# Altium schematic symbol library mysch.SchLib: 46 symbols
Pins are listed as number, name and electrical type; pins without a type are passive.

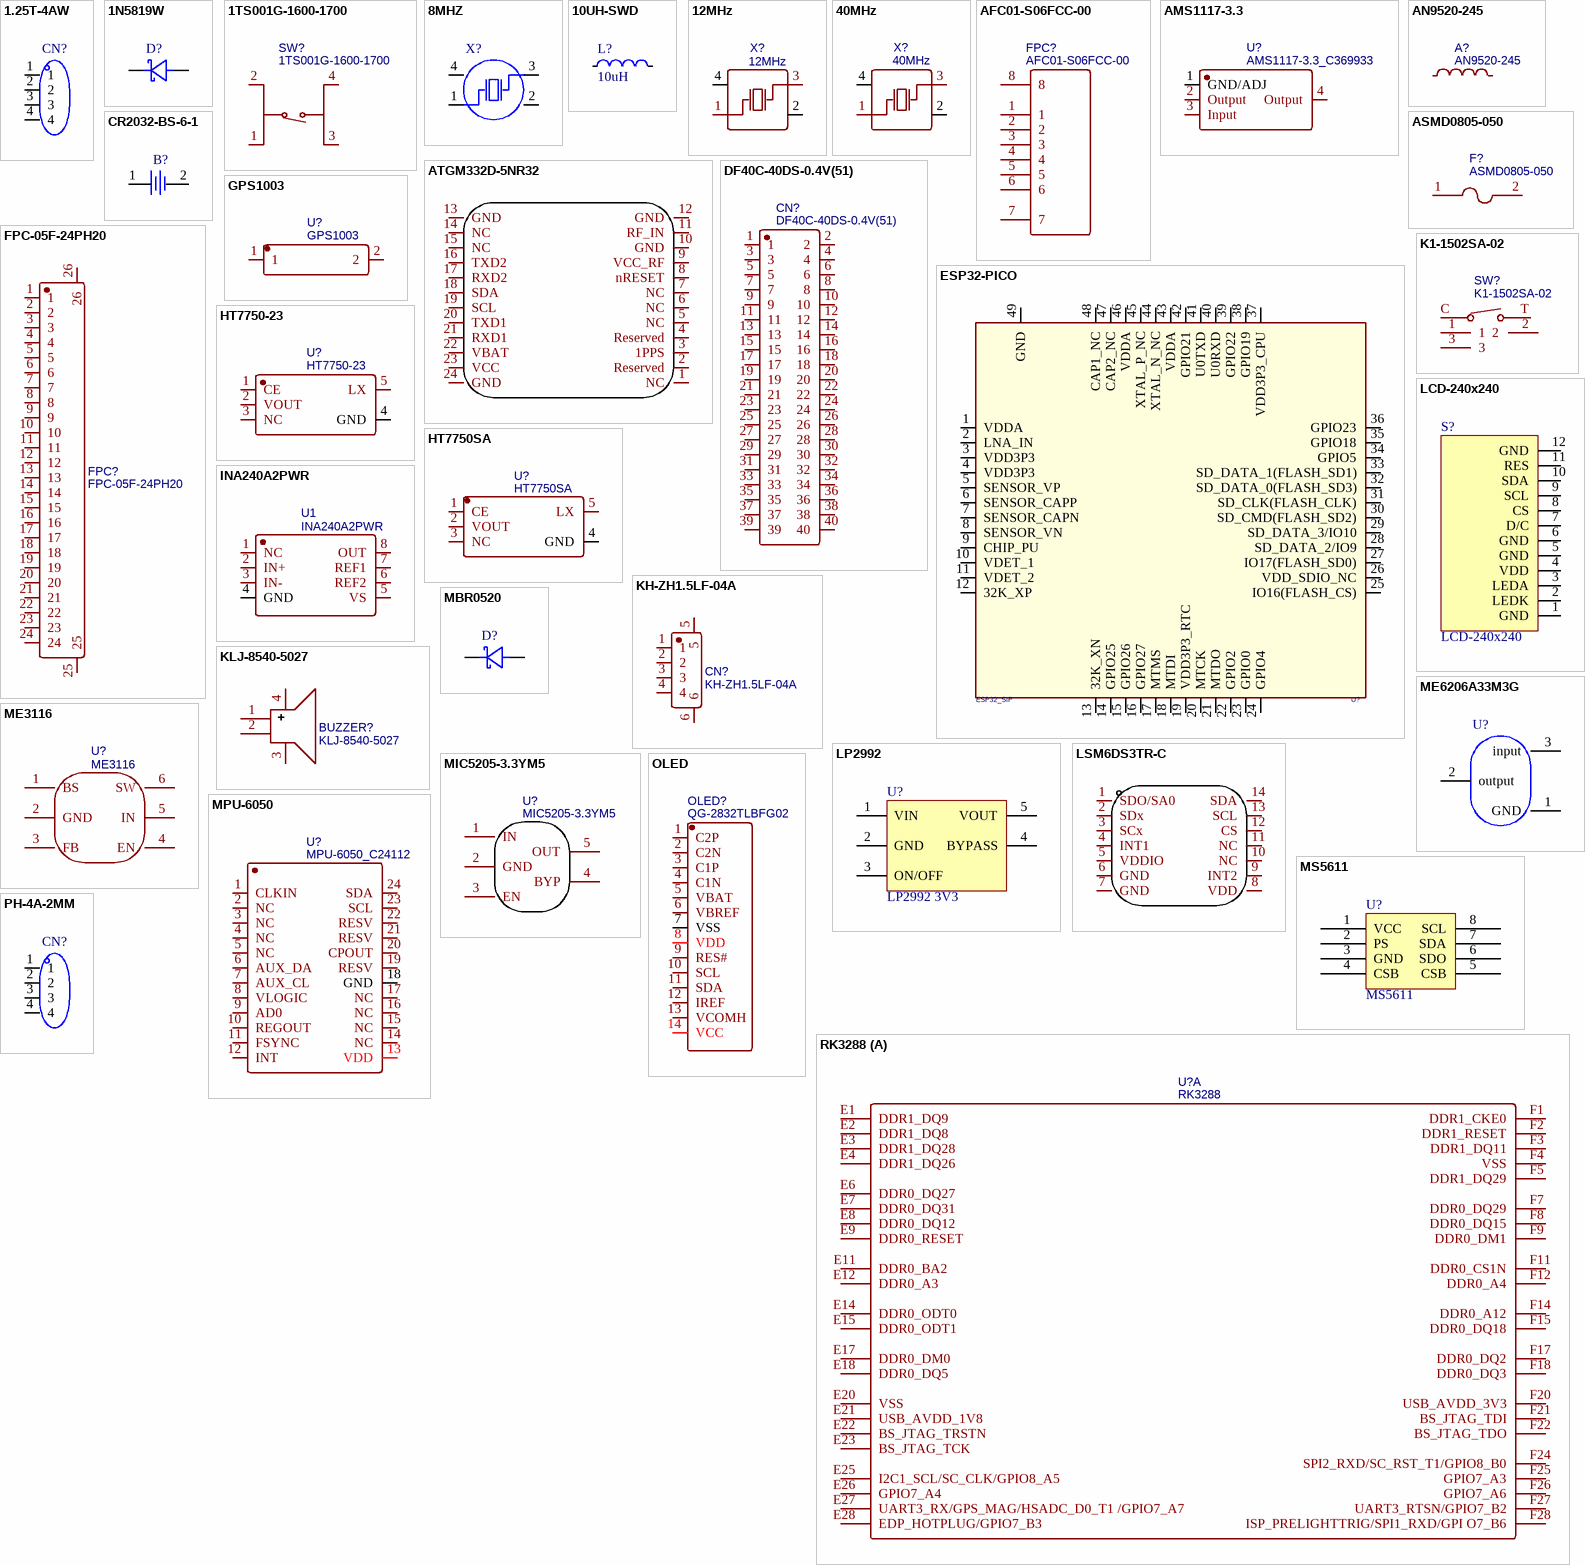
[diagram p0: symbols 1.25T-4AW to RK3288]

## 1.25T-4AW
designator CN?
1.25mm 4P; Manufacturer: CAX(创都); Symbol: 1.25T-4AW_C722639; Device: 1.25T-4AW; Add into BOM: yes; Pins Structure: 1x4P; Number of PINs Per Row: 4; Gender: 公型插针; Current Rating (Max): 1A; LCSC Part Name: 4P 1.25mm; Supplier Part: C722639; Manufacturer Part: 1.25T-4AW; Supplier Footprint: 插件,P=1.25mm; JLCPCB Part Class: Extended Part; Datasheet: https://atta.szlcsc.com/upload/public/pdf/source/20200831/C722634_24F26787281092EEA77CD6D878338187.pdf; Supplier: LCSC; Convert to PCB: yes; Reference Series: -; Pitch: 1.25mm; Number of Rows: 1; Row Spacing: -; Mounting Style: 弯插; Operating Temperature Range: -25~+85
footprint CONN-TH_1.25T-4AW
pins: 1, 2, 3, 4

## 1N5819W
designator D?
二极管; Manufacturer: TWGMC(台湾迪嘉); Manufacturer Part: 1N5819W; Symbol: 1N5819W_C727115; Add into BOM: yes; Diode Configuration: 独立式; Reverse Voltage (Vr): 40V; Average Rectified Current (Io): 1A; Forward Voltage (Vf@If): 900mV@3A; Reverse Leakage Current (Ir): 1mA@40V; Device: 1N5819W_C727115; LCSC Part Name: 40V 1A 900mV@3A; Supplier Part: C727115; Supplier Footprint: SOD-123; JLCPCB Part Class: Extended Part; Datasheet: https://atta.szlcsc.com/upload/public/pdf/source/20200828/C727113_260B72EC53C389C21DF1E8AB243F1BFC.pdf; Supplier: LCSC; Convert to PCB: yes
footprint SOD-123 (二极管)
pins: 1 C, 2 A

## 1TS001G-1600-1700
designator SW?
四脚触控开关; BOM_Manufacturer: HYP; Contributor: LCSC; BOM_Supplier: LCSC; BOM_Supplier Part: C318802; BOM_Manufacturer Part: 1TS001G-1600-1700; BOM_JLCPCB Part Class: Extended Part; spicePre: S; spiceSymbolName: 1TS001G-1600-1700
footprint SW-SMD_4P-L5.1-W5.1-P3.70-LS6.5-TL-2
pins: 1 A, 2 B, 3 C, 4 D

## 8MHZ
designator X?
8M 30PPM 20pf; Manufacturer: SIWARD(台湾希华); Symbol: XTL541200-C282-030; Add into BOM: yes; Device: XTL541200-C282-030; LCSC Part Name: 8MHz 20pF 20PPM; Supplier Part: C211359; Manufacturer Part: XTL541200-C282-030; Supplier Footprint: SMD5032-4P; JLCPCB Part Class: Extended Part; Datasheet: https://atta.szlcsc.com/upload/public/pdf/source/20180502/C211359_C3A699E12D7D0972204A7F7616890513.pdf; Supplier: LCSC; Convert to PCB: yes; Crystal Type: -; Frequency Tolerance: -; Frequency Stability: -; Load Capacitance: -; Operating Temperature: -
footprint OSC-SMD_4P-L5.0-W3.2-BL
pins: 1 OSC1, 2 GND, 3 OSC2, 4 GND

## 10UH-SWD
designator L?  value 10uH
Manufacturer: Sunlord(顺络); Symbol: SWPA3012S100MT; Add into BOM: yes; Tolerance: ±20%; Rated Current: 830mA; DC Resistance (DCR): 345mΩ; Device: SWPA3012S100MT; LCSC Part Name: 10uH ±20% 830mA 345mΩ; Supplier Part: C48668; Manufacturer Part: SWPA3012S100MT; Supplier Footprint: SMD; JLCPCB Part Class: Extended Part; Datasheet: https://atta.szlcsc.com/upload/public/pdf/source/20210916/AC798BA7E846B7D0B6818F45CD84DB0B.pdf; Supplier: LCSC; Convert to PCB: yes
footprint IND-SMD_L3.0-W3.0_SWPA3010S
pins: 1, 2

## 12MHz
designator X?
无源晶振; BOM_Manufacturer: YXC; BOM_Manufacturer Part: X322512MSB4SI; nameAlias: Frequency; BOM_Supplier: LCSC; BOM_Supplier Part: C9002; BOM_JLCPCB Part Class: Basic Part; spicePre: X; spiceSymbolName: X322512MSB4SI
footprint OSC-SMD_4P-L3.2-W2.5-BL
pins: 1 OSC1, 2 GND, 3 OSC2, 4 GND

## 40MHz
designator X?
有源晶振; BOM_Manufacturer: TKD; BOM_Manufacturer Part: 3225-20MHZ-15PF-10PPM; nameAlias: Frequency; Contributor: LCSC; BOM_Supplier: LCSC; BOM_Supplier Part: C337680; spicePre: X; spiceSymbolName: 3225-20MHZ-15PF-10PPM
footprint OSC-SMD_4P-L3.2-W2.5-BL
pins: 1 OSC1, 2 GND, 3 OSC2, 4 GND

## AFC01-S06FCC-00
designator FPC?
BOM_Manufacturer: JUSHUO; Contributor: LCSC; BOM_Supplier: LCSC; BOM_Supplier Part: C262262; BOM_Manufacturer Part: AFC01-S06FCC-00; BOM_JLCPCB Part Class: Extended Part; spicePre: F; spiceSymbolName: AFC01-S06FCC-00
footprint FPC-SMD_AFC01-S06FCC-00
pins: 1, 2, 3, 4, 5, 6, 7, 8

## AMS1117-3.3
designator U?, comment AMS1117-3.3_C369933
LDO 5V-3.3V; BOM_Manufacturer: KEXIN; Contributor: LCSC; BOM_Paste Type: expand; BOM_Supplier: LCSC; BOM_Supplier Part: C369933; BOM_Manufacturer Part: AMS1117-3.3; spicePre: U; spiceSymbolName: AMS1117-3.3_C369933
footprint SOT-223-AMS1117
pins: 1 GND/ADJ, 2 Output, 3 Input, 4 Output

## AN9520-245
designator A?
陶瓷wifi/bt天线; BOM_Manufacturer: Rainsun; BOM_Supplier: LCSC; BOM_Manufacturer Part: AN9520-245; BOM_Supplier Part: C99665; BOM_JLCPCB Part Class: Extended Part; spicePre: L; spiceSymbolName: AN9520-245
footprint ANT-SMD_L9.5-W2.1
pins: 1, 2

## ASMD0805-050
designator F?
电流保护; BOM_Manufacturer: JDTFUSE; Contributor: LCSC; BOM_Supplier: LCSC; BOM_Manufacturer Part: ASMD0805-050; BOM_Supplier Part: C135329; BOM_JLCPCB Part Class: Extended Part; spicePre: F; spiceSymbolName: ASMD0805-050
footprint ASMD0805
pins: 1, 2

## ATGM332D-5NR32
designator U?  (value not drawn)
Manufacturer: 杭州中科微; Add into BOM: yes; Name: ATGM332D-5NR32; Symbol: ATGM332D-5NR32; Device: ATGM332D-5NR32; LCSC Part Name: BDS/GNSS 全星座定位导航模块; Supplier Part: C3037611; Manufacturer Part: ATGM332D-5NR32; Supplier Footprint: -; JLCPCB Part Class: Extended Part; Datasheet: https://atta.szlcsc.com/upload/public/pdf/source/20220623/89B350A4689FD8DAA801C638D9ED4BB8.pdf; Supplier: LCSC; Convert to PCB: yes
footprint GSM-SMD_ATGM332D-5N11
3D model GSM-SMD_24P-L16.0-W12.2-H2.4_ATGM332D-5N11
pins: 1 NC, 2 Reserved, 3 1PPS, 4 Reserved, 5 NC, 6 NC, 7 NC, 8 nRESET, 9 VCC_RF, 10 GND, 11 RF_IN, 12 GND, 13 GND, 14 NC, 15 NC, 16 TXD2, 17 RXD2, 18 SDA, 19 SCL, 20 TXD1, 21 RXD1, 22 VBAT, 23 VCC, 24 GND

## CR2032-BS-6-1
designator B?
电池座; Manufacturer: Q&J; Symbol: CR2032-BS-6-1; Add into BOM: yes; Connector Type: 电池底座; Battery Type: CR2032; Device: CR2032-BS-6-1; LCSC Part Name: 电池底座 适用电池:CR2032; Supplier Part: C70377; Manufacturer Part: CR2032-BS-6-1; Supplier Footprint: SMD; JLCPCB Part Class: Extended Part; Datasheet: https://atta.szlcsc.com/upload/public/pdf/source/20160427/1461725216549.pdf; Supplier: LCSC; Convert to PCB: yes; Operating Temperature Range: -
footprint BAT-TH_CR2032-BS-6-1
pins: 1, 2

## DF40C-40DS-0.4V(51)
designator CN?
BTB; BOM_Manufacturer: HRS(广濑); Contributor: LCSC; BOM_Supplier: LCSC; BOM_Supplier Part: C424644; BOM_Manufacturer Part: DF40C-40DS-0.4V(51); BOM_JLCPCB Part Class: Extended Part; spicePre: C; spiceSymbolName: DF40C-40DS-0.4V(51)
footprint CONN-SMD_DF40C-40DS-0.4V51
pins: 1, 2, 3, 4, 5, 6, 7, 8, 9, 10, 11, 12, 13, 14, 15, 16, 17, 18, 19, 20, 21, 22, 23, 24, 25, 26, 27, 28, 29, 30, 31, 32, 33, 34, 35, 36, 37, 38, 39, 40

## ESP32-PICO
designator U?, comment ESP32_SIP
footprint QFN-48_7X7
pins: 1 VDDA (power), 2 LNA_IN, 3 VDD3P3 (power), 4 VDD3P3 (power), 5 SENSOR_VP, 6 SENSOR_CAPP, 7 SENSOR_CAPN, 8 SENSOR_VN, 9 CHIP_PU, 10 VDET_1, 11 VDET_2, 12 32K_XP, 13 32K_XN, 14 GPIO25, 15 GPIO26, 16 GPIO27, 17 MTMS, 18 MTDI, 19 VDD3P3_RTC (power), 20 MTCK, 21 MTDO, 22 GPIO2, 23 GPIO0, 24 GPIO4, 25 IO16(FLASH_CS), 26 VDD_SDIO_NC, 27 IO17(FLASH_SD0), 28 SD_DATA_2/IO9, 29 SD_DATA_3/IO10, 30 SD_CMD(FLASH_SD2), 31 SD_CLK(FLASH_CLK), 32 SD_DATA_0(FLASH_SD3), 33 SD_DATA_1(FLASH_SD1), 34 GPIO5, 35 GPIO18, 36 GPIO23, 37 VDD3P3_CPU (power), 38 GPIO19, 39 GPIO22, 40 U0RXD (power), 41 U0TXD (power), 42 GPIO21, 43 VDDA (power), 44 XTAL_N_NC, 45 XTAL_P_NC, 46 VDDA (power), 47 CAP2_NC, 48 CAP1_NC, 49 GND (power)

## FPC-05F-24PH20
designator FPC?
FPC24脚; BOM_Manufacturer: XUNPU(讯普); Contributor: LCSC; BOM_Supplier: LCSC; BOM_Supplier Part: C2856805; BOM_Manufacturer Part: FPC-05F-24PH20; spicePre: F; spiceSymbolName: FPC-05F-24PH20
footprint FPC-SMD_24P-P0.50_FPC-05F-24PH20
pins: 1, 2, 3, 4, 5, 6, 7, 8, 9, 10, 11, 12, 13, 14, 15, 16, 17, 18, 19, 20, 21, 22, 23, 24, 25, 26

## GPS1003
designator U?
GPS陶瓷天线; BOM_Manufacturer: Rainsun microwave Tech; Contributor: LCSC; BOM_Supplier: LCSC; BOM_Supplier Part: C239243; BOM_Manufacturer Part: GPS1003; BOM_JLCPCB Part Class: Extended Part; spicePre: U; spiceSymbolName: GPS1003
footprint ANT-SMD_L10.0-W3.0
pins: 1, 2

## HT7750-23
designator U?
BOM_Manufacturer: Holtek Semicon; BOM_Manufacturer Part: HT7750; Contributor: LCSC; BOM_Supplier: LCSC; BOM_Supplier Part: C259881; BOM_JLCPCB Part Class: Extended Part; spicePre: U; spiceSymbolName: HT7750_C259881
footprint SOT-23-5_L3.0-W1.7-P0.95-LS2.8-BL
pins: 1 CE, 2 VOUT, 3 NC, 4 GND, 5 LX

## HT7750SA
designator U?
BOM_Manufacturer: Holtek Semicon; Contributor: LCSC; BOM_Supplier: LCSC; BOM_Supplier Part: C192571; BOM_Manufacturer Part: HT7750SA; BOM_JLCPCB Part Class: Extended Part; spicePre: U; spiceSymbolName: HT7750SA
footprint SOT-23-5
pins: 1 CE, 2 VOUT, 3 NC, 4 GND, 5 LX

## INA240A2PWR
designator U1
BOM_Manufacturer: TI; subpart_no: 1; Contributor: LCSC; BOM_Supplier: LCSC; BOM_Manufacturer Part: INA240A2PWR; BOM_Supplier Part: C129949; BOM_JLCPCB Part Class: Extended Part; spicePre: U; spiceSymbolName: INA240A2PWR
footprint TSSOP-8_L4.4-W3.0-P0.65-LS6.4-BL
pins: 1 NC, 2 IN+, 3 IN-, 4 GND, 5 VS, 6 REF2, 7 REF1, 8 OUT

## K1-1502SA-02
designator SW?
拨码开关; BOM_Manufacturer: Rectangular Connectors - Contacts; Contributor: LCSC; BOM_Supplier: LCSC; BOM_Supplier Part: C128929; BOM_Manufacturer Part: K1-1502SA-02; BOM_JLCPCB Part Class: Extended Part; spicePre: S; spiceSymbolName: K1-1502SA-02
footprint KEY-SMD_K1-1502SA-02
pins: 1, 2, 3, C, T

## KH-ZH1.5LF-04A
designator CN?
BOM_Manufacturer: kinghelm(金航标); Contributor: LCSC; BOM_Supplier: LCSC; BOM_Supplier Part: C2688776; BOM_Manufacturer Part: KH-ZH1.5LF-04A; spicePre: C; spiceSymbolName: KH-ZH1.5LF-04A
footprint CONN-SMD_KH-ZH1.5LF-04A
pins: 1, 2, 3, 4, 5, 6

## KLJ-8540-5027
designator BUZZER?
有源喇叭; BOM_Manufacturer: KELIKING; Contributor: LCSC; BOM_Supplier: LCSC; BOM_Supplier Part: C556939; BOM_Manufacturer Part: KLJ-8540-5027; BOM_JLCPCB Part Class: Extended Part; spicePre: B; spiceSymbolName: KLJ-8540-5027
footprint BUZ-SMD_4P-L8.5-W8.5-TL
pins: 1 +, 2 -, 3 NC, 4 NC

## LCD-240x240
designator S?
显示屏
footprint LCD-240x240
footprint LCD-240x240-FlUSH
footprint LCD-240x240-FlUSH-154
pins: 1 GND, 2 LEDK, 3 LEDA, 4 VDD, 5 GND, 6 GND, 7 D/C, 8 CS, 9 SCL, 10 SDA, 11 RES, 12 GND

## LP2992
designator U?, comment LP2992 3V3
LDO
footprint SOT23-5 (SOT23, 3-Leads, Body 3.1x3.0mm (max), Pitch 0.95mm, IPC Medium Density)
pins: 1 VIN, 2 GND, 3 ON/OFF, 4 BYPASS, 5 VOUT

## LSM6DS3TR-C
designator U?  (value not drawn)
Manufacturer: ST(意法半导体); Add into BOM: yes; Name: LSM6DS3TR-C; Symbol: LSM6DS3TR-C; Device: LSM6DS3TR-C; LCSC Part Name: IMU-惯性测量单元; Supplier Part: C967633; Manufacturer Part: LSM6DS3TR-C; Supplier Footprint: LGA-14; JLCPCB Part Class: Extended Part; Datasheet: https://atta.szlcsc.com/upload/public/pdf/source/20210226/C967633_4D8B3A108D63359423D57B97CE5134B1.pdf; Supplier: LCSC; Convert to PCB: yes
footprint LGA-14_L3.0-W2.5-P0.50-TL
3D model LGA-14_L2.5-W3.0-H0.9-P0.50
pins: 1 SDO/SA0, 2 SDx, 3 SCx, 4 INT1, 5 VDDIO, 6 GND, 7 GND, 8 VDD, 9 INT2, 10 NC, 11 NC, 12 CS, 13 SCL, 14 SDA

## MBR0520
designator D?
20V 500mA 450mV肖恩二极管; Manufacturer: YANGJIE(扬杰); Symbol: MBR0520_C699111; Device: MBR0520; Add into BOM: yes; Forward Voltage (Vf@If): 450mV@500mA; LCSC Part Name: 20V 500mA 450mV@500mA; Supplier Part: C699111; Manufacturer Part: MBR0520; Supplier Footprint: SOD-123; JLCPCB Part Class: Extended Part; Datasheet: https://atta.szlcsc.com/upload/public/pdf/source/20200709/C699108_94C8F1A54679DD603C9696C8694A3BC2.pdf; Supplier: LCSC; Convert to PCB: yes; Reverse Voltage (Vr): 20V; Average Rectified Current (Io): 500mA
footprint SOD-123_L2.7-W1.6-LS3.7-RD-1
pins: 1 K, 2 A

## ME3116
designator U?
BOM_Manufacturer: MICRONE; BOM_Supplier: LCSC; BOM_Manufacturer Part: ME3116; BOM_Supplier Part: C97643; BOM_JLCPCB Part Class: Extended Part; spicePre: U; spiceSymbolName: ME3116
footprint SOT-23-6_L2.9-W1.6-P0.95-LS2.8-BR
pins: 1 BS, 2 GND, 3 FB, 4 EN, 5 IN, 6 SW

## ME6206A33M3G
designator U?
LDO; Manufacturer: MICRONE(南京微盟); Symbol: ME6206A33M3G; Add into BOM: yes; Output Type: 固定; Output Polarity: 正; Number of Outputs: 1; Maximum Input Voltage: 6V; Output Voltage: 3.3V; Dropout Voltage: 380mV@(200mA); Output Current: 300mA; Power Supply Rejection Ratio (PRSS): 50dB@(1kHz); Device: ME6206A33M3G; LCSC Part Name: Vin=6V Vout=3.3V 300mA 50dB@(1kHz); Supplier Part: C35259; Manufacturer Part: ME6206A33M3G; Supplier Footprint: SOT-23-3L; JLCPCB Part Class: Extended Part; Datasheet: https://atta.szlcsc.com/upload/public/pdf/source/20171014/C35259_15079757490131038524.pdf; Supplier: LCSC; Convert to PCB: yes; Quiescent Current (Ground Current): -
footprint SOT-23-3_L2.9-W1.6-P1.90-LS2.8-BR
pins: 1 GND, 2 output, 3 input

## MIC5205-3.3YM5
designator U?
BOM_Manufacturer: MICROCHIP; BOM_Supplier: LCSC; BOM_Manufacturer Part: MIC5205-3.3YM5; image: //image.lceda.cn/szlcsc/C37970.jpg; BOM_Supplier Part: C37970; BOM_JLCPCB Part Class: Extended Part; spicePre: U; spiceSymbolName: MIC5205-3.3YM5
footprint SOT-23-5
pins: 1 IN, 2 GND, 3 EN, 4 BYP, 5 OUT

## MPU-6050
designator U?, comment MPU-6050_C24112
Gsenser; BOM_Manufacturer: InvenSense; sourceId: 1T5FDZYC8; timeStamp: 1462265206; BOM_Supplier: LCSC; BOM_Manufacturer Part: MPU-6050; BOM_Supplier Part: C24112; BOM_JLCPCB Part Class: Basic Part; spicePre: U; spiceSymbolName: MPU-6050_C24112
footprint QFN-24_L4.0-W4.0-P0.50-BL-MPU-6050
pins: 1 CLKIN, 2 NC, 3 NC, 4 NC, 5 NC, 6 AUX_DA, 7 AUX_CL, 8 VLOGIC, 9 AD0, 10 REGOUT, 11 FSYNC, 12 INT, 13 VDD, 14 NC, 15 NC, 16 NC, 17 NC, 18 GND, 19 RESV, 20 CPOUT, 21 RESV, 22 RESV, 23 SCL, 24 SDA

## MS5611
designator U?
footprint MS5611
pins: 1 VCC, 2 PS, 3 GND, 4 CSB, 5 CSB, 6 SDO, 7 SDA, 8 SCL

## OLED
designator OLED?, comment QG-2832TLBFG02
BOM_Manufacturer: Allvision; Contributor: LCSC; BOM_Supplier: LCSC; BOM_Manufacturer Part: QG-2832TLBFG02; BOM_Supplier Part: C91220; BOM_JLCPCB Part Class: Extended Part; spicePre: O; spiceSymbolName: QG-2832TLBFG02
footprint OLED-SMD_QG-9616TSWCG02
pins: 1 C2P, 2 C2N, 3 C1P, 4 C1N, 5 VBAT, 6 VBREF, 7 VSS, 8 VDD, 9 RES#, 10 SCL, 11 SDA, 12 IREF, 13 VCOMH, 14 VCC

## PH-4A-2MM
designator CN?
Manufacturer: CAX(创都); Symbol: PH-4A_C722775; Device: PH-4A; Add into BOM: yes; LCSC Part Name: 4P 2.0mm; Supplier Part: C722775; Manufacturer Part: PH-4A; Supplier Footprint: -; JLCPCB Part Class: Extended Part; Datasheet: https://atta.szlcsc.com/upload/public/pdf/source/20200831/C722752_2CEED1D72592B01C53DF3269E60027F0.pdf; Supplier: LCSC; Convert to PCB: yes
footprint CONN-TH_PH-4A
pins: 1, 2, 3, 4

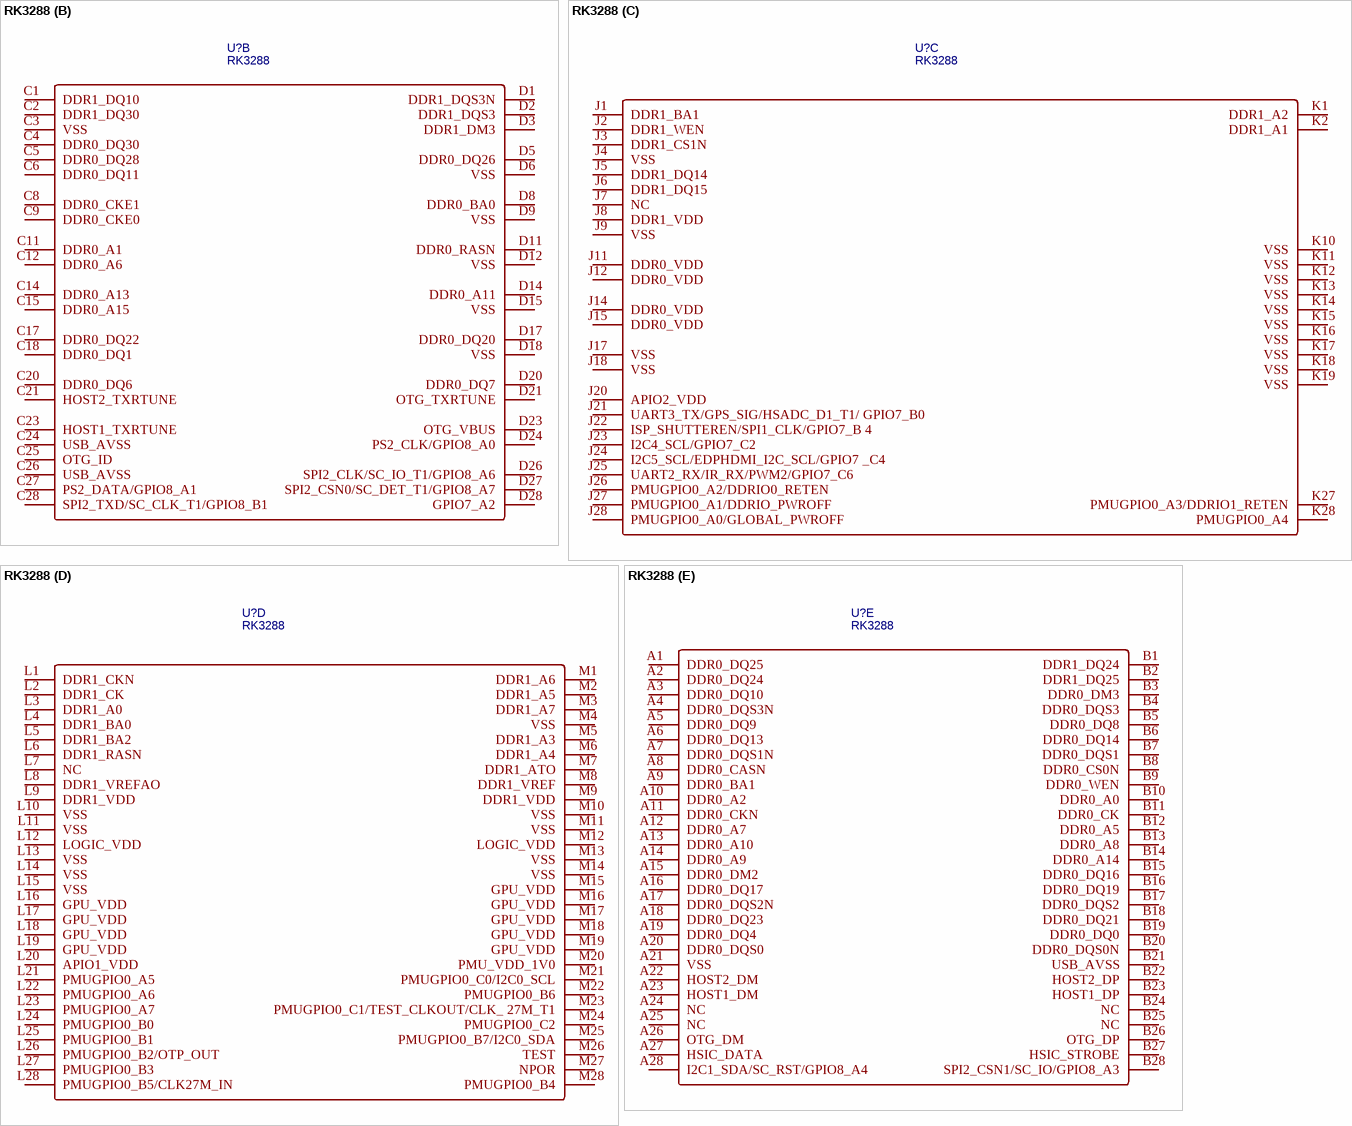
[diagram p1: symbol RK3288]

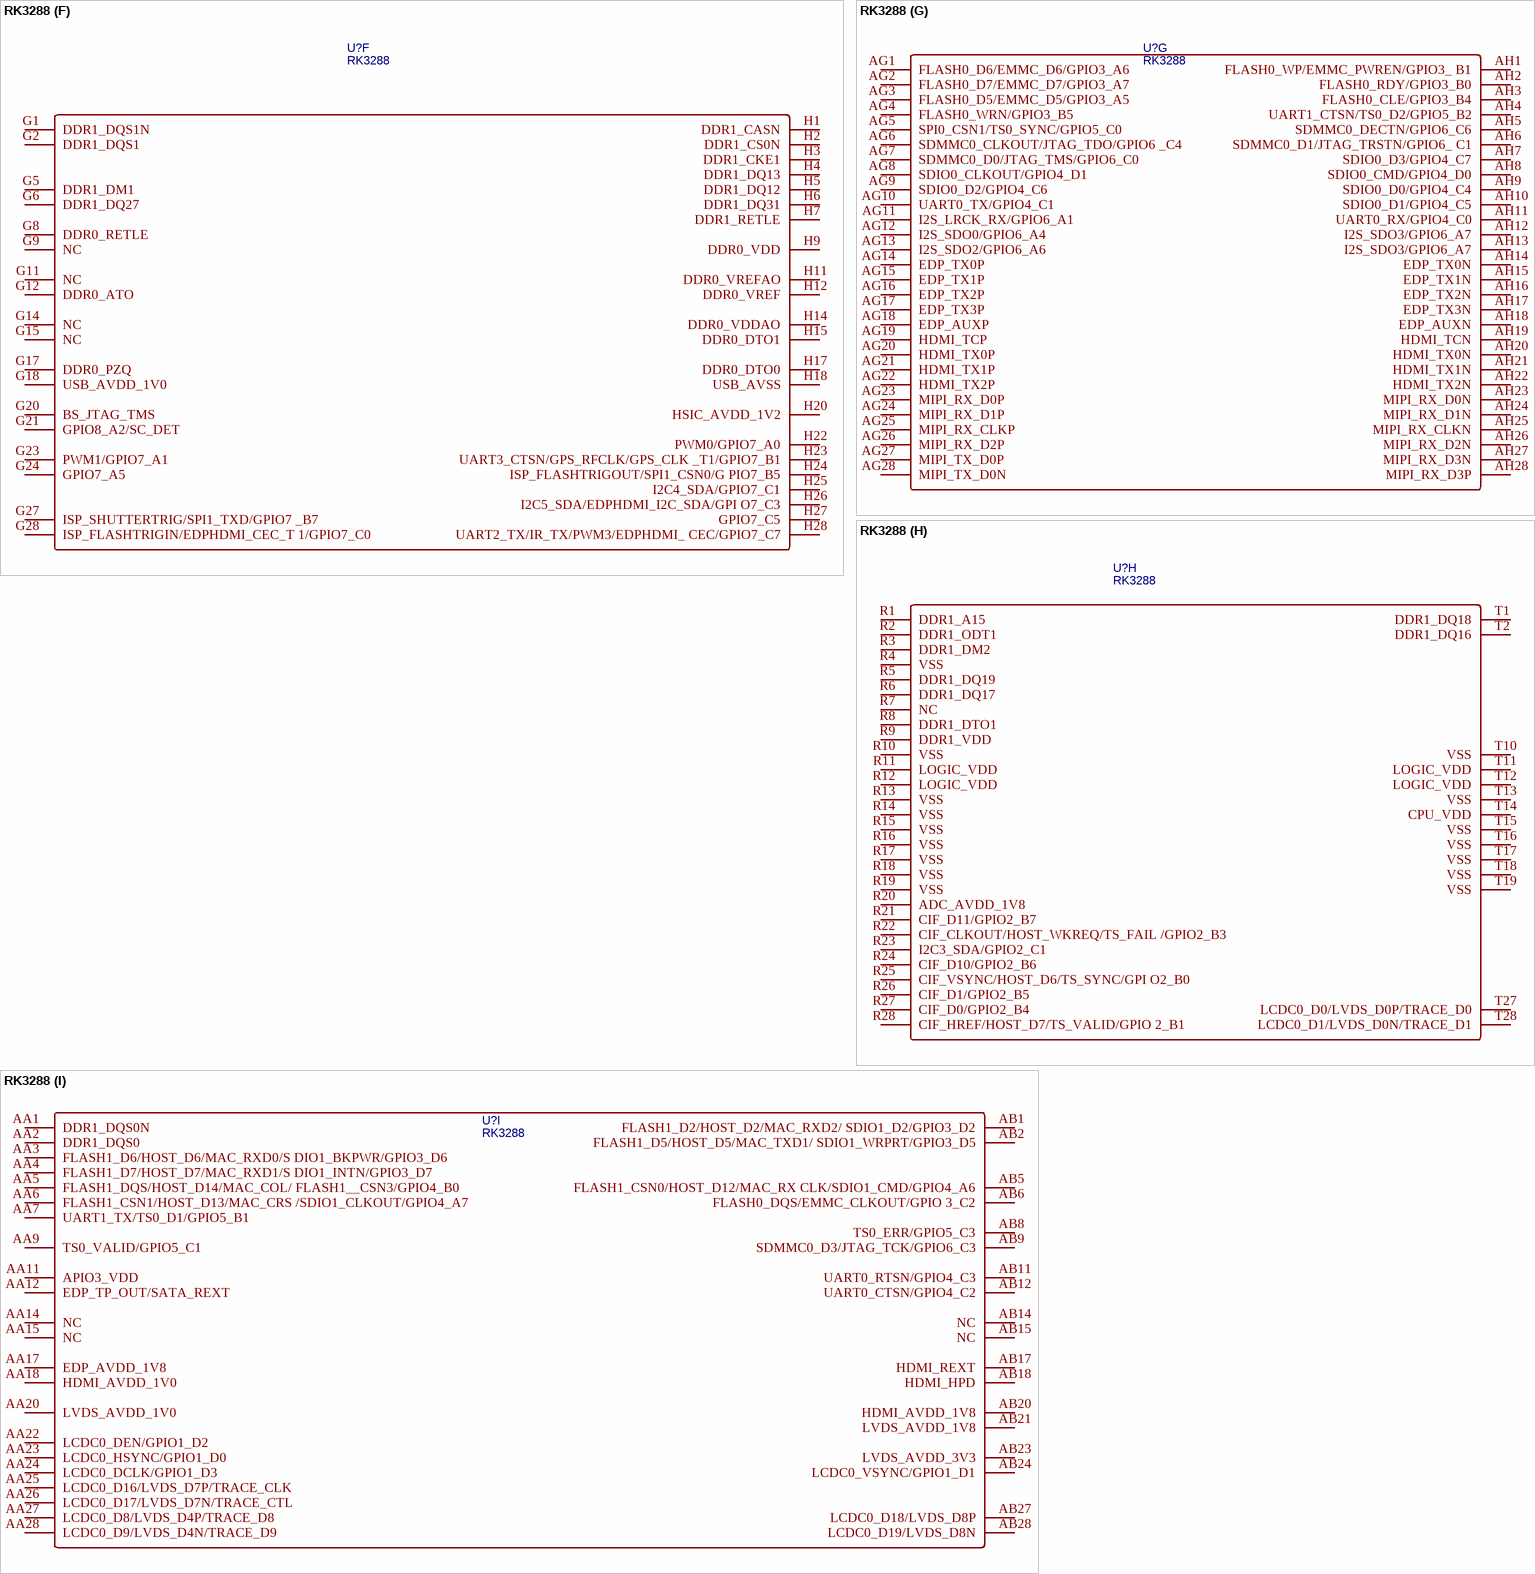
[diagram p2: symbol RK3288]

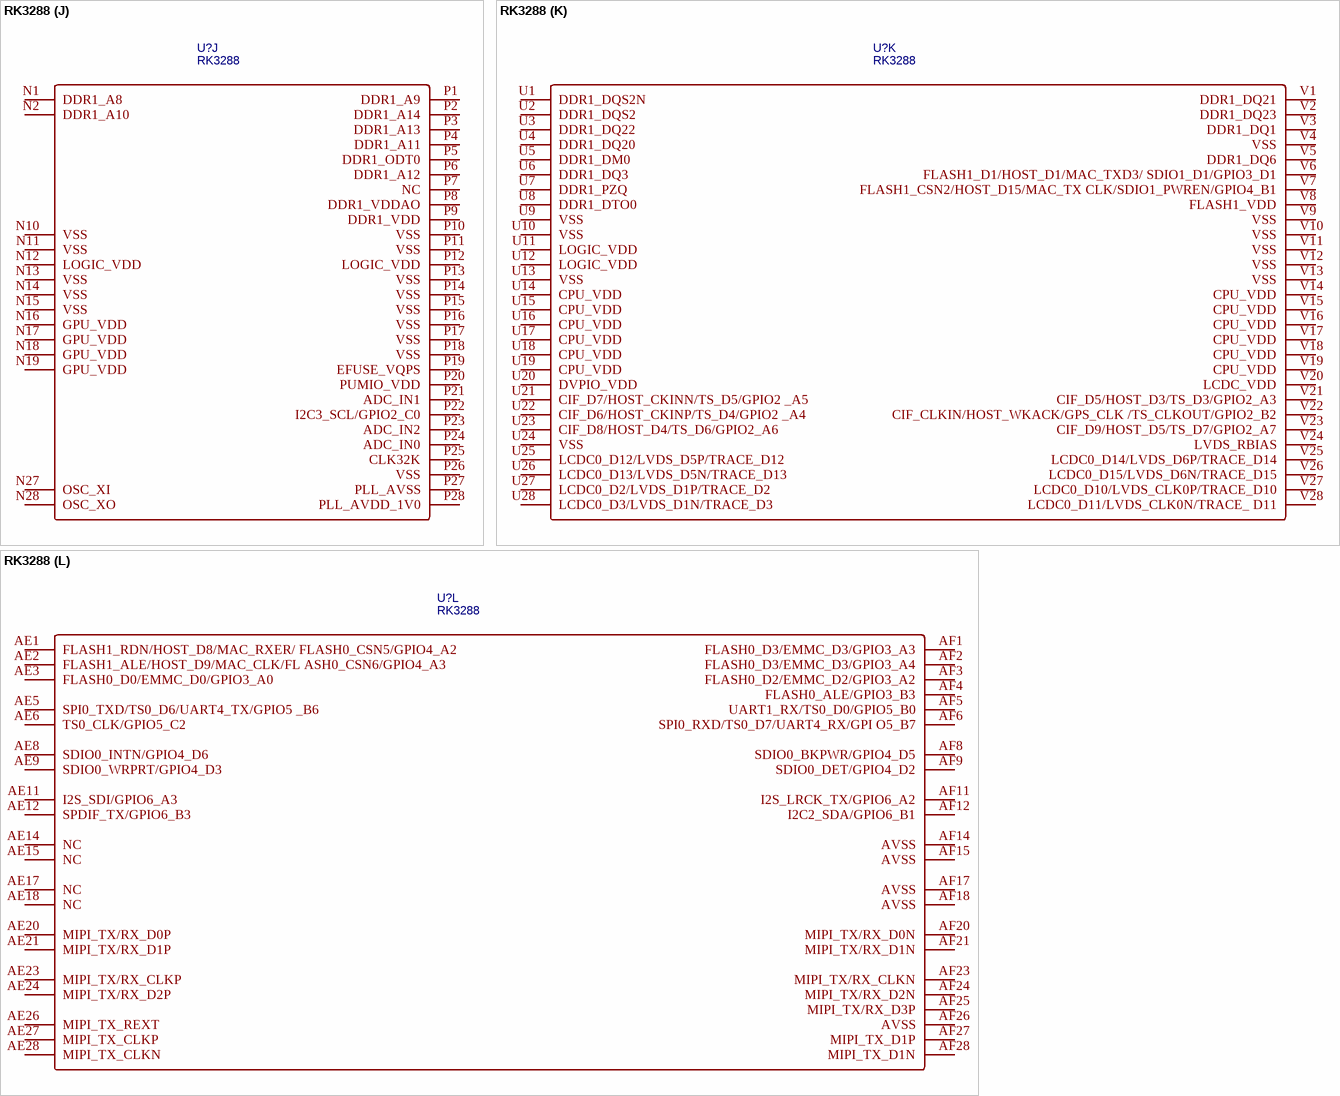
[diagram p3: symbol RK3288]

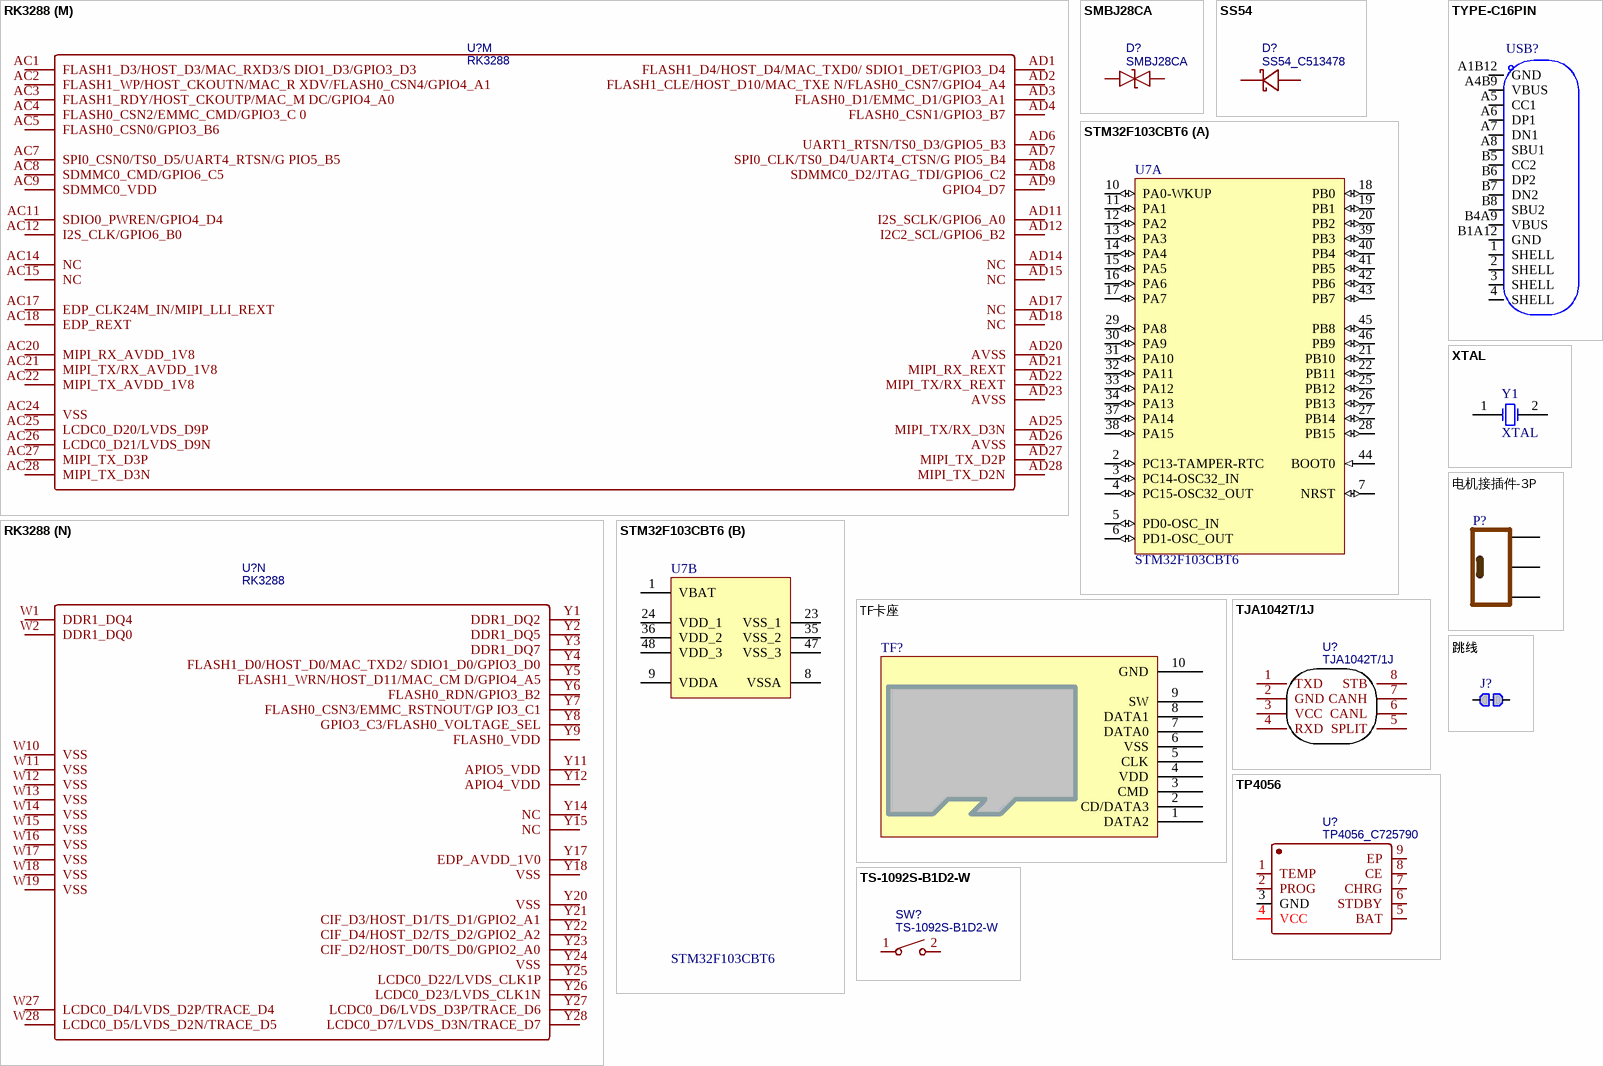
[diagram p4: symbols RK3288 to 跳线]

## RK3288
designator U?
BOM_Manufacturer: Rockchip(瑞芯微); subpart_no: 3; BOM_Supplier: LCSC; BOM_Supplier Part: C191247; BOM_Manufacturer Part: RK3288; BOM_JLCPCB Part Class: Extended Part; spicePre: U; spiceSymbolName: RK3288
footprint BGA-636_L19.0-W19.0-P0.65-TL_RK3288
part A pins: E1 DDR1_DQ9, E2 DDR1_DQ8, E3 DDR1_DQ28, E4 DDR1_DQ26, E6 DDR0_DQ27, E7 DDR0_DQ31, E8 DDR0_DQ12, E9 DDR0_RESET, E11 DDR0_BA2, E12 DDR0_A3, E14 DDR0_ODT0, E15 DDR0_ODT1, E17 DDR0_DM0, E18 DDR0_DQ5, E20 VSS, E21 USB_AVDD_1V8, E22 BS_JTAG_TRSTN, E23 BS_JTAG_TCK, E25 I2C1_SCL/SC_CLK/GPIO8_A5, E26 GPIO7_A4, E27 UART3_RX/GPS_MAG/HSADC_D0_T1 /GPIO7_A7, E28 EDP_HOTPLUG/GPIO7_B3, F1 DDR1_CKE0, F2 DDR1_RESET, F3 DDR1_DQ11, F4 VSS, F5 DDR1_DQ29, F7 DDR0_DQ29, F8 DDR0_DQ15, F9 DDR0_DM1, F11 DDR0_CS1N, F12 DDR0_A4, F14 DDR0_A12, F15 DDR0_DQ18, F17 DDR0_DQ2, F18 DDR0_DQ3, F20 USB_AVDD_3V3, F21 BS_JTAG_TDI, F22 BS_JTAG_TDO, F24 SPI2_RXD/SC_RST_T1/GPIO8_B0, F25 GPIO7_A3, F26 GPIO7_A6, F27 UART3_RTSN/GPIO7_B2, F28 ISP_PRELIGHTTRIG/SPI1_RXD/GPI O7_B6
part B pins: C1 DDR1_DQ10, C2 DDR1_DQ30, C3 VSS, C4 DDR0_DQ30, C5 DDR0_DQ28, C6 DDR0_DQ11, C8 DDR0_CKE1, C9 DDR0_CKE0, C11 DDR0_A1, C12 DDR0_A6, C14 DDR0_A13, C15 DDR0_A15, C17 DDR0_DQ22, C18 DDR0_DQ1, C20 DDR0_DQ6, C21 HOST2_TXRTUNE, C23 HOST1_TXRTUNE, C24 USB_AVSS, C25 OTG_ID, C26 USB_AVSS, C27 PS2_DATA/GPIO8_A1, C28 SPI2_TXD/SC_CLK_T1/GPIO8_B1, D1 DDR1_DQS3N, D2 DDR1_DQS3, D3 DDR1_DM3, D5 DDR0_DQ26, D6 VSS, D8 DDR0_BA0, D9 VSS, D11 DDR0_RASN, D12 VSS, D14 DDR0_A11, D15 VSS, D17 DDR0_DQ20, D18 VSS, D20 DDR0_DQ7, D21 OTG_TXRTUNE, D23 OTG_VBUS, D24 PS2_CLK/GPIO8_A0, D26 SPI2_CLK/SC_IO_T1/GPIO8_A6, D27 SPI2_CSN0/SC_DET_T1/GPIO8_A7, D28 GPIO7_A2
part C pins: J1 DDR1_BA1, J2 DDR1_WEN, J3 DDR1_CS1N, J4 VSS, J5 DDR1_DQ14, J6 DDR1_DQ15, J7 NC, J8 DDR1_VDD, J9 VSS, J11 DDR0_VDD, J12 DDR0_VDD, J14 DDR0_VDD, J15 DDR0_VDD, J17 VSS, J18 VSS, J20 APIO2_VDD, J21 UART3_TX/GPS_SIG/HSADC_D1_T1/ GPIO7_B0, J22 ISP_SHUTTEREN/SPI1_CLK/GPIO7_B 4, J23 I2C4_SCL/GPIO7_C2, J24 I2C5_SCL/EDPHDMI_I2C_SCL/GPIO7 _C4, J25 UART2_RX/IR_RX/PWM2/GPIO7_C6, J26 PMUGPIO0_A2/DDRIO0_RETEN, J27 PMUGPIO0_A1/DDRIO_PWROFF, J28 PMUGPIO0_A0/GLOBAL_PWROFF, K1 DDR1_A2, K2 DDR1_A1, K10 VSS, K11 VSS, K12 VSS, K13 VSS, K14 VSS, K15 VSS, K16 VSS, K17 VSS, K18 VSS, K19 VSS, K27 PMUGPIO0_A3/DDRIO1_RETEN, K28 PMUGPIO0_A4
part D pins: L1 DDR1_CKN, L2 DDR1_CK, L3 DDR1_A0, L4 DDR1_BA0, L5 DDR1_BA2, L6 DDR1_RASN, L7 NC, L8 DDR1_VREFAO, L9 DDR1_VDD, L10 VSS, L11 VSS, L12 LOGIC_VDD, L13 VSS, L14 VSS, L15 VSS, L16 GPU_VDD, L17 GPU_VDD, L18 GPU_VDD, L19 GPU_VDD, L20 APIO1_VDD, L21 PMUGPIO0_A5, L22 PMUGPIO0_A6, L23 PMUGPIO0_A7, L24 PMUGPIO0_B0, L25 PMUGPIO0_B1, L26 PMUGPIO0_B2/OTP_OUT, L27 PMUGPIO0_B3, L28 PMUGPIO0_B5/CLK27M_IN, M1 DDR1_A6, M2 DDR1_A5, M3 DDR1_A7, M4 VSS, M5 DDR1_A3, M6 DDR1_A4, M7 DDR1_ATO, M8 DDR1_VREF, M9 DDR1_VDD, M10 VSS, M11 VSS, M12 LOGIC_VDD, M13 VSS, M14 VSS, M15 GPU_VDD, M16 GPU_VDD, M17 GPU_VDD, M18 GPU_VDD, M19 GPU_VDD, M20 PMU_VDD_1V0, M21 PMUGPIO0_C0/I2C0_SCL, M22 PMUGPIO0_B6, M23 PMUGPIO0_C1/TEST_CLKOUT/CLK_ 27M_T1, M24 PMUGPIO0_C2, M25 PMUGPIO0_B7/I2C0_SDA, M26 TEST, M27 NPOR, M28 PMUGPIO0_B4
part E pins: A1 DDR0_DQ25, A2 DDR0_DQ24, A3 DDR0_DQ10, A4 DDR0_DQS3N, A5 DDR0_DQ9, A6 DDR0_DQ13, A7 DDR0_DQS1N, A8 DDR0_CASN, A9 DDR0_BA1, A10 DDR0_A2, A11 DDR0_CKN, A12 DDR0_A7, A13 DDR0_A10, A14 DDR0_A9, A15 DDR0_DM2, A16 DDR0_DQ17, A17 DDR0_DQS2N, A18 DDR0_DQ23, A19 DDR0_DQ4, A20 DDR0_DQS0, A21 VSS, A22 HOST2_DM, A23 HOST1_DM, A24 NC, A25 NC, A26 OTG_DM, A27 HSIC_DATA, A28 I2C1_SDA/SC_RST/GPIO8_A4, B1 DDR1_DQ24, B2 DDR1_DQ25, B3 DDR0_DM3, B4 DDR0_DQS3, B5 DDR0_DQ8, B6 DDR0_DQ14, B7 DDR0_DQS1, B8 DDR0_CS0N, B9 DDR0_WEN, B10 DDR0_A0, B11 DDR0_CK, B12 DDR0_A5, B13 DDR0_A8, B14 DDR0_A14, B15 DDR0_DQ16, B16 DDR0_DQ19, B17 DDR0_DQS2, B18 DDR0_DQ21, B19 DDR0_DQ0, B20 DDR0_DQS0N, B21 USB_AVSS, B22 HOST2_DP, B23 HOST1_DP, B24 NC, B25 NC, B26 OTG_DP, B27 HSIC_STROBE, B28 SPI2_CSN1/SC_IO/GPIO8_A3
part F pins: G1 DDR1_DQS1N, G2 DDR1_DQS1, G5 DDR1_DM1, G6 DDR1_DQ27, G8 DDR0_RETLE, G9 NC, G11 NC, G12 DDR0_ATO, G14 NC, G15 NC, G17 DDR0_PZQ, G18 USB_AVDD_1V0, G20 BS_JTAG_TMS, G21 GPIO8_A2/SC_DET, G23 PWM1/GPIO7_A1, G24 GPIO7_A5, G27 ISP_SHUTTERTRIG/SPI1_TXD/GPIO7 _B7, G28 ISP_FLASHTRIGIN/EDPHDMI_CEC_T 1/GPIO7_C0, H1 DDR1_CASN, H2 DDR1_CS0N, H3 DDR1_CKE1, H4 DDR1_DQ13, H5 DDR1_DQ12, H6 DDR1_DQ31, H7 DDR1_RETLE, H9 DDR0_VDD, H11 DDR0_VREFAO, H12 DDR0_VREF, H14 DDR0_VDDAO, H15 DDR0_DTO1, H17 DDR0_DTO0, H18 USB_AVSS, H20 HSIC_AVDD_1V2, H22 PWM0/GPIO7_A0, H23 UART3_CTSN/GPS_RFCLK/GPS_CLK _T1/GPIO7_B1, H24 ISP_FLASHTRIGOUT/SPI1_CSN0/G PIO7_B5, H25 I2C4_SDA/GPIO7_C1, H26 I2C5_SDA/EDPHDMI_I2C_SDA/GPI O7_C3, H27 GPIO7_C5, H28 UART2_TX/IR_TX/PWM3/EDPHDMI_ CEC/GPIO7_C7
part G pins: AG1 FLASH0_D6/EMMC_D6/GPIO3_A6, AG2 FLASH0_D7/EMMC_D7/GPIO3_A7, AG3 FLASH0_D5/EMMC_D5/GPIO3_A5, AG4 FLASH0_WRN/GPIO3_B5, AG5 SPI0_CSN1/TS0_SYNC/GPIO5_C0, AG6 SDMMC0_CLKOUT/JTAG_TDO/GPIO6 _C4, AG7 SDMMC0_D0/JTAG_TMS/GPIO6_C0, AG8 SDIO0_CLKOUT/GPIO4_D1, AG9 SDIO0_D2/GPIO4_C6, AG10 UART0_TX/GPIO4_C1, AG11 I2S_LRCK_RX/GPIO6_A1, AG12 I2S_SDO0/GPIO6_A4, AG13 I2S_SDO2/GPIO6_A6, AG14 EDP_TX0P, AG15 EDP_TX1P, AG16 EDP_TX2P, AG17 EDP_TX3P, AG18 EDP_AUXP, AG19 HDMI_TCP, AG20 HDMI_TX0P, AG21 HDMI_TX1P, AG22 HDMI_TX2P, AG23 MIPI_RX_D0P, AG24 MIPI_RX_D1P, AG25 MIPI_RX_CLKP, AG26 MIPI_RX_D2P, AG27 MIPI_TX_D0P, AG28 MIPI_TX_D0N, AH1 FLASH0_WP/EMMC_PWREN/GPIO3_ B1, AH2 FLASH0_RDY/GPIO3_B0, AH3 FLASH0_CLE/GPIO3_B4, AH4 UART1_CTSN/TS0_D2/GPIO5_B2, AH5 SDMMC0_DECTN/GPIO6_C6, AH6 SDMMC0_D1/JTAG_TRSTN/GPIO6_ C1, AH7 SDIO0_D3/GPIO4_C7, AH8 SDIO0_CMD/GPIO4_D0, AH9 SDIO0_D0/GPIO4_C4, AH10 SDIO0_D1/GPIO4_C5, AH11 UART0_RX/GPIO4_C0, AH12 I2S_SDO3/GPIO6_A7, AH13 I2S_SDO3/GPIO6_A7, AH14 EDP_TX0N, AH15 EDP_TX1N, AH16 EDP_TX2N, AH17 EDP_TX3N, AH18 EDP_AUXN, AH19 HDMI_TCN, AH20 HDMI_TX0N, AH21 HDMI_TX1N, AH22 HDMI_TX2N, AH23 MIPI_RX_D0N, AH24 MIPI_RX_D1N, AH25 MIPI_RX_CLKN, AH26 MIPI_RX_D2N, AH27 MIPI_RX_D3N, AH28 MIPI_RX_D3P
part H pins: R1 DDR1_A15, R2 DDR1_ODT1, R3 DDR1_DM2, R4 VSS, R5 DDR1_DQ19, R6 DDR1_DQ17, R7 NC, R8 DDR1_DTO1, R9 DDR1_VDD, R10 VSS, R11 LOGIC_VDD, R12 LOGIC_VDD, R13 VSS, R14 VSS, R15 VSS, R16 VSS, R17 VSS, R18 VSS, R19 VSS, R20 ADC_AVDD_1V8, R21 CIF_D11/GPIO2_B7, R22 CIF_CLKOUT/HOST_WKREQ/TS_FAIL /GPIO2_B3, R23 I2C3_SDA/GPIO2_C1, R24 CIF_D10/GPIO2_B6, R25 CIF_VSYNC/HOST_D6/TS_SYNC/GPI O2_B0, R26 CIF_D1/GPIO2_B5, R27 CIF_D0/GPIO2_B4, R28 CIF_HREF/HOST_D7/TS_VALID/GPIO 2_B1, T1 DDR1_DQ18, T2 DDR1_DQ16, T10 VSS, T11 LOGIC_VDD, T12 LOGIC_VDD, T13 VSS, T14 CPU_VDD, T15 VSS, T16 VSS, T17 VSS, T18 VSS, T19 VSS, T27 LCDC0_D0/LVDS_D0P/TRACE_D0, T28 LCDC0_D1/LVDS_D0N/TRACE_D1
part I pins: AA1 DDR1_DQS0N, AA2 DDR1_DQS0, AA3 FLASH1_D6/HOST_D6/MAC_RXD0/S DIO1_BKPWR/GPIO3_D6, AA4 FLASH1_D7/HOST_D7/MAC_RXD1/S DIO1_INTN/GPIO3_D7, AA5 FLASH1_DQS/HOST_D14/MAC_COL/ FLASH1__CSN3/GPIO4_B0, AA6 FLASH1_CSN1/HOST_D13/MAC_CRS /SDIO1_CLKOUT/GPIO4_A7, AA7 UART1_TX/TS0_D1/GPIO5_B1, AA9 TS0_VALID/GPIO5_C1, AA11 APIO3_VDD, AA12 EDP_TP_OUT/SATA_REXT, AA14 NC, AA15 NC, AA17 EDP_AVDD_1V8, AA18 HDMI_AVDD_1V0, AA20 LVDS_AVDD_1V0, AA22 LCDC0_DEN/GPIO1_D2, AA23 LCDC0_HSYNC/GPIO1_D0, AA24 LCDC0_DCLK/GPIO1_D3, AA25 LCDC0_D16/LVDS_D7P/TRACE_CLK, AA26 LCDC0_D17/LVDS_D7N/TRACE_CTL, AA27 LCDC0_D8/LVDS_D4P/TRACE_D8, AA28 LCDC0_D9/LVDS_D4N/TRACE_D9, AB1 FLASH1_D2/HOST_D2/MAC_RXD2/ SDIO1_D2/GPIO3_D2, AB2 FLASH1_D5/HOST_D5/MAC_TXD1/ SDIO1_WRPRT/GPIO3_D5, AB5 FLASH1_CSN0/HOST_D12/MAC_RX CLK/SDIO1_CMD/GPIO4_A6, AB6 FLASH0_DQS/EMMC_CLKOUT/GPIO 3_C2, AB8 TS0_ERR/GPIO5_C3, AB9 SDMMC0_D3/JTAG_TCK/GPIO6_C3, AB11 UART0_RTSN/GPIO4_C3, AB12 UART0_CTSN/GPIO4_C2, AB14 NC, AB15 NC, AB17 HDMI_REXT, AB18 HDMI_HPD, AB20 HDMI_AVDD_1V8, AB21 LVDS_AVDD_1V8, AB23 LVDS_AVDD_3V3, AB24 LCDC0_VSYNC/GPIO1_D1, AB27 LCDC0_D18/LVDS_D8P, AB28 LCDC0_D19/LVDS_D8N
part J pins: N1 DDR1_A8, N2 DDR1_A10, N10 VSS, N11 VSS, N12 LOGIC_VDD, N13 VSS, N14 VSS, N15 VSS, N16 GPU_VDD, N17 GPU_VDD, N18 GPU_VDD, N19 GPU_VDD, N27 OSC_XI, N28 OSC_XO, P1 DDR1_A9, P2 DDR1_A14, P3 DDR1_A13, P4 DDR1_A11, P5 DDR1_ODT0, P6 DDR1_A12, P7 NC, P8 DDR1_VDDAO, P9 DDR1_VDD, P10 VSS, P11 VSS, P12 LOGIC_VDD, P13 VSS, P14 VSS, P15 VSS, P16 VSS, P17 VSS, P18 VSS, P19 EFUSE_VQPS, P20 PUMIO_VDD, P21 ADC_IN1, P22 I2C3_SCL/GPIO2_C0, P23 ADC_IN2, P24 ADC_IN0, P25 CLK32K, P26 VSS, P27 PLL_AVSS, P28 PLL_AVDD_1V0
part K pins: U1 DDR1_DQS2N, U2 DDR1_DQS2, U3 DDR1_DQ22, U4 DDR1_DQ20, U5 DDR1_DM0, U6 DDR1_DQ3, U7 DDR1_PZQ, U8 DDR1_DTO0, U9 VSS, U10 VSS, U11 LOGIC_VDD, U12 LOGIC_VDD, U13 VSS, U14 CPU_VDD, U15 CPU_VDD, U16 CPU_VDD, U17 CPU_VDD, U18 CPU_VDD, U19 CPU_VDD, U20 DVPIO_VDD, U21 CIF_D7/HOST_CKINN/TS_D5/GPIO2 _A5, U22 CIF_D6/HOST_CKINP/TS_D4/GPIO2 _A4, U23 CIF_D8/HOST_D4/TS_D6/GPIO2_A6, U24 VSS, U25 LCDC0_D12/LVDS_D5P/TRACE_D12, U26 LCDC0_D13/LVDS_D5N/TRACE_D13, U27 LCDC0_D2/LVDS_D1P/TRACE_D2, U28 LCDC0_D3/LVDS_D1N/TRACE_D3, V1 DDR1_DQ21, V2 DDR1_DQ23, V3 DDR1_DQ1, V4 VSS, V5 DDR1_DQ6, V6 FLASH1_D1/HOST_D1/MAC_TXD3/ SDIO1_D1/GPIO3_D1, V7 FLASH1_CSN2/HOST_D15/MAC_TX CLK/SDIO1_PWREN/GPIO4_B1, V8 FLASH1_VDD, V9 VSS, V10 VSS, V11 VSS, V12 VSS, V13 VSS, V14 CPU_VDD, V15 CPU_VDD, V16 CPU_VDD, V17 CPU_VDD, V18 CPU_VDD, V19 CPU_VDD, V20 LCDC_VDD, V21 CIF_D5/HOST_D3/TS_D3/GPIO2_A3, V22 CIF_CLKIN/HOST_WKACK/GPS_CLK /TS_CLKOUT/GPIO2_B2, V23 CIF_D9/HOST_D5/TS_D7/GPIO2_A7, V24 LVDS_RBIAS, V25 LCDC0_D14/LVDS_D6P/TRACE_D14, V26 LCDC0_D15/LVDS_D6N/TRACE_D15, V27 LCDC0_D10/LVDS_CLK0P/TRACE_D10, V28 LCDC0_D11/LVDS_CLK0N/TRACE_ D11
part L pins: AE1 FLASH1_RDN/HOST_D8/MAC_RXER/ FLASH0_CSN5/GPIO4_A2, AE2 FLASH1_ALE/HOST_D9/MAC_CLK/FL ASH0_CSN6/GPIO4_A3, AE3 FLASH0_D0/EMMC_D0/GPIO3_A0, AE5 SPI0_TXD/TS0_D6/UART4_TX/GPIO5 _B6, AE6 TS0_CLK/GPIO5_C2, AE8 SDIO0_INTN/GPIO4_D6, AE9 SDIO0_WRPRT/GPIO4_D3, AE11 I2S_SDI/GPIO6_A3, AE12 SPDIF_TX/GPIO6_B3, AE14 NC, AE15 NC, AE17 NC, AE18 NC, AE20 MIPI_TX/RX_D0P, AE21 MIPI_TX/RX_D1P, AE23 MIPI_TX/RX_CLKP, AE24 MIPI_TX/RX_D2P, AE26 MIPI_TX_REXT, AE27 MIPI_TX_CLKP, AE28 MIPI_TX_CLKN, AF1 FLASH0_D3/EMMC_D3/GPIO3_A3, AF2 FLASH0_D3/EMMC_D3/GPIO3_A4, AF3 FLASH0_D2/EMMC_D2/GPIO3_A2, AF4 FLASH0_ALE/GPIO3_B3, AF5 UART1_RX/TS0_D0/GPIO5_B0, AF6 SPI0_RXD/TS0_D7/UART4_RX/GPI O5_B7, AF8 SDIO0_BKPWR/GPIO4_D5, AF9 SDIO0_DET/GPIO4_D2, AF11 I2S_LRCK_TX/GPIO6_A2, AF12 I2C2_SDA/GPIO6_B1, AF14 AVSS, AF15 AVSS, AF17 AVSS, AF18 AVSS, AF20 MIPI_TX/RX_D0N, AF21 MIPI_TX/RX_D1N, AF23 MIPI_TX/RX_CLKN, AF24 MIPI_TX/RX_D2N, AF25 MIPI_TX/RX_D3P, AF26 AVSS, AF27 MIPI_TX_D1P, AF28 MIPI_TX_D1N
part M pins: AC1 FLASH1_D3/HOST_D3/MAC_RXD3/S DIO1_D3/GPIO3_D3, AC2 FLASH1_WP/HOST_CKOUTN/MAC_R XDV/FLASH0_CSN4/GPIO4_A1, AC3 FLASH1_RDY/HOST_CKOUTP/MAC_M DC/GPIO4_A0, AC4 FLASH0_CSN2/EMMC_CMD/GPIO3_C 0, AC5 FLASH0_CSN0/GPIO3_B6, AC7 SPI0_CSN0/TS0_D5/UART4_RTSN/G PIO5_B5, AC8 SDMMC0_CMD/GPIO6_C5, AC9 SDMMC0_VDD, AC11 SDIO0_PWREN/GPIO4_D4, AC12 I2S_CLK/GPIO6_B0, AC14 NC, AC15 NC, AC17 EDP_CLK24M_IN/MIPI_LLI_REXT, AC18 EDP_REXT, AC20 MIPI_RX_AVDD_1V8, AC21 MIPI_TX/RX_AVDD_1V8, AC22 MIPI_TX_AVDD_1V8, AC24 VSS, AC25 LCDC0_D20/LVDS_D9P, AC26 LCDC0_D21/LVDS_D9N, AC27 MIPI_TX_D3P, AC28 MIPI_TX_D3N, AD1 FLASH1_D4/HOST_D4/MAC_TXD0/ SDIO1_DET/GPIO3_D4, AD2 FLASH1_CLE/HOST_D10/MAC_TXE N/FLASH0_CSN7/GPIO4_A4, AD3 FLASH0_D1/EMMC_D1/GPIO3_A1, AD4 FLASH0_CSN1/GPIO3_B7, AD6 UART1_RTSN/TS0_D3/GPIO5_B3, AD7 SPI0_CLK/TS0_D4/UART4_CTSN/G PIO5_B4, AD8 SDMMC0_D2/JTAG_TDI/GPIO6_C2, AD9 GPIO4_D7, AD11 I2S_SCLK/GPIO6_A0, AD12 I2C2_SCL/GPIO6_B2, AD14 NC, AD15 NC, AD17 NC, AD18 NC, AD20 AVSS, AD21 MIPI_RX_REXT, AD22 MIPI_TX/RX_REXT, AD23 AVSS, AD25 MIPI_TX/RX_D3N, AD26 AVSS, AD27 MIPI_TX_D2P, AD28 MIPI_TX_D2N
part N pins: W1 DDR1_DQ4, W2 DDR1_DQ0, W10 VSS, W11 VSS, W12 VSS, W13 VSS, W14 VSS, W15 VSS, W16 VSS, W17 VSS, W18 VSS, W19 VSS, W27 LCDC0_D4/LVDS_D2P/TRACE_D4, W28 LCDC0_D5/LVDS_D2N/TRACE_D5, Y1 DDR1_DQ2, Y2 DDR1_DQ5, Y3 DDR1_DQ7, Y4 FLASH1_D0/HOST_D0/MAC_TXD2/ SDIO1_D0/GPIO3_D0, Y5 FLASH1_WRN/HOST_D11/MAC_CM D/GPIO4_A5, Y6 FLASH0_RDN/GPIO3_B2, Y7 FLASH0_CSN3/EMMC_RSTNOUT/GP IO3_C1, Y8 GPIO3_C3/FLASH0_VOLTAGE_SEL, Y9 FLASH0_VDD, Y11 APIO5_VDD, Y12 APIO4_VDD, Y14 NC, Y15 NC, Y17 EDP_AVDD_1V0, Y18 VSS, Y20 VSS, Y21 CIF_D3/HOST_D1/TS_D1/GPIO2_A1, Y22 CIF_D4/HOST_D2/TS_D2/GPIO2_A2, Y23 CIF_D2/HOST_D0/TS_D0/GPIO2_A0, Y24 VSS, Y25 LCDC0_D22/LVDS_CLK1P, Y26 LCDC0_D23/LVDS_CLK1N, Y27 LCDC0_D6/LVDS_D3P/TRACE_D6, Y28 LCDC0_D7/LVDS_D3N/TRACE_D7

## SMBJ28CA
designator D?
BOM_Manufacturer: FTR; Contributor: LCSC; BOM_Supplier: LCSC; BOM_Supplier Part: C693498; BOM_Manufacturer Part: SMBJ28CA; BOM_JLCPCB Part Class: Extended Part; spicePre: D; spiceSymbolName: SMBJ28CA_C693498
footprint SMB_L4.6-W3.6-LS5.3-BI
pins: 1, 2

## SS54
designator D?, comment SS54_C513478
BOM_Manufacturer: Slkor(SLKORMICRO Elec.); BOM_Manufacturer Part: SS54; Contributor: LCSC; BOM_Supplier: LCSC; BOM_Supplier Part: C513478; BOM_JLCPCB Part Class: Extended Part; spicePre: D; spiceSymbolName: SS54_C513478
footprint SMA_L4.4-W2.8-LS5.4-R-RD
pins: 1 A, 2 K

## STM32F103CBT6
designator U7
ARM Cortex-M3 32-bit MCU, 128 KB Flash, 20 KB Internal RAM, 37 I/Os, 48-pin LQFP, -40 to 85 degC, Tray; A/D Converter: 2x12-bit (10 Channel); FLASH Size (Prog) (kB): 128; I/Os (High Current): 37; Internal RAM Size (kB): 20; Operating Frequency(F) (Processor speed) (MHz): 72; Supply Voltage(Vcc) min (V): 2; DatasheetVersion: Rev. 16; PackageVersion: Rev. 6, 06/2013; PackageReference: LQFP48; PackageDescription: 48-Pin Low Profile Quad Flat Package, 7 x 7 mm Body, 0.5 mm Pitch; Supplier 1: Digi-Key; Supplier Part Number 1: 497-6288-ND; Supplier 2: Farnell; Supplier Part Number 2: 1606327; Supplier 3: Newark; Supplier Part Number 3: 11N8296; Supplier 4: Newark; Supplier Part Number 4: 57P1214; Supplier 5: Mouser; Supplier Part Number 5: 511-STM32F103CBT6; Core: ARM Cortex-M3; Packing: Tray; Mounting Technology: Surface Mount; PartNumber: STM32F103CBT6; ComponentLink1Description: Manufacturer URL; ComponentLink1URL: http://www.st.com/web/en/home.html; ComponentLink2Description: Datasheet; ComponentLink2URL: http://www.st.com/st-web-ui/static/active/en/resource/technical/document/datasheet/CD00161566.pdf; ComponentLink3Description: Package Specification; ComponentLink3URL: http://www.st.com/st-web-ui/static/active/en/resource/technical/document/datasheet/DM00058181.pdf
footprint LQFP-48
part A pins: 2 PC13-TAMPER-RTC (io) "PC13-TAMPER-RTC/PC13/TAMPER-RTC", 3 PC14-OSC32_IN (io) "PC14-OSC32_IN/PC14/OSC32_IN", 4 PC15-OSC32_OUT (io) "PC15-OSC32_OUT/PC15/OSC32_OUT", 5 PD0-OSC_IN (io) "PD0/OSC_IN", 6 PD1-OSC_OUT (io) "PD1/OSC_OUT", 7 NRST (io), 10 PA0-WKUP (io) "PA0-WKUP/PA0/WKUP/USART2_CTS/ADC12_IN0/TIM2_CH1_ETR", 11 PA1 (io) "PA1/USART2_RTS/ADC12_IN1/TIM2_CH2", 12 PA2 (io) "PA2/USART2_TX/ADC12_IN2/TIM2_CH3", 13 PA3 (io) "PA3/USART2_RX/ADC12_IN3/TIM2_CH4", 14 PA4 (io) "PA4/SPI1_NSS/USART2_CK/ADC12_IN4", 15 PA5 (io) "PA5/SPI1_SCK/ADC12_IN5", 16 PA6 (io) "PA6/SPI1_MISO/ADC12_IN6/TIM3_CH1/TIM1_BKIN", 17 PA7 (io) "PA7/SPI1_MOSI/ADC12_IN7/TIM3_CH2/TIM1_CH1N", 18 PB0 (io) "PB0/ADC12_IN8/TIM3_CH3/TIM1_CH2N", 19 PB1 (io) "PB1/ADC12_IN9/TIM3_CH4/TIM1_CH3N", 20 PB2 (io) "PB2/BOOT1", 21 PB10 (io) "PB10/I2C2_SCL/USART3_TX/TIM2_CH3", 22 PB11 (io) "PB11/I2C2_SDA/USART3_RX/TIM2_CH4", 25 PB12 (io) "PB12/SPI2_NSS/I2C2_SMBAl/USART3_CK/TIM1_BKIN", 26 PB13 (io) "PB13/SPI2_SCK/USART3_CTS/TIM1_CH1N", 27 PB14 (io) "PB14/SPI2_MISO/USART3_RTS/TIM1_CH2N", 28 PB15 (io) "PB15/SPI2_MOSI/TIM1_CH3N", 29 PA8 (io) "PA8/USART1_CK/TIM1_CH1/MCO", 30 PA9 (io) "PA9/USART1_TX/TIM1_CH2", 31 PA10 (io) "PA10/USART1_RX/TIM1_CH3", 32 PA11 (io) "PA11/USART1_CTS/CANRX/USBDM/TIM1_CH4", 33 PA12 (io) "PA12/USART1_RTS/CANTX/USBDP/TIM1_ETR", 34 PA13 (io) "PA13/JTMS/SWDIO", 37 PA14 (io) "PA14/JTCK/SWCLK", 38 PA15 (io) "PA15/JTDI/TIM2_CH1_ETR/SPI1_NSS", 39 PB3 (io) "PB3/JTDO/TIM2_CH2/TRACESWO/SPI1_SCK", 40 PB4 (io) "PB4/NJTRST/TIM3_CH1/SPI1_MISO", 41 PB5 (io) "PB5/I2C1_SMBAI/TIM3_CH2/SPI1_MOSI", 42 PB6 (io) "PB6/I2C1_SCL/TIM4_CH1/USART1_TX", 43 PB7 (io) "PB7/I2C1_SDA/TIM4_CH2/USART1_RX", 44 BOOT0 (in), 45 PB8 (io) "PB8/TIM4_CH3/I2C1_SCL/CANRX", 46 PB9 (io) "PB9/TIM4_CH4/I2C1_SDA/CANTX"
part B pins: 1 VBAT (power), 8 VSSA (power), 9 VDDA (power), 23 VSS_1 (power), 24 VDD_1 (power), 35 VSS_2 (power), 36 VDD_2 (power), 47 VSS_3 (power), 48 VDD_3 (power)

## TF卡座
designator TF?, comment TF  (value not drawn)
8脚自弹
footprint TF-SMD_THD2528
pins: 1 DATA2, 2 CD/DATA3, 3 CMD, 4 VDD, 5 CLK, 6 VSS, 7 DATA0, 8 DATA1, 9 SW, 10 GND

## TJA1042T/1J
designator U?
CAN芯片; BOM_Manufacturer: NXP; BOM_Supplier: LCSC; BOM_Manufacturer Part: TJA1042T/1J; BOM_Supplier Part: C53670; BOM_JLCPCB Part Class: Extended Part; spicePre: U; spiceSymbolName: TJA1042T/1J
footprint SOIC-8_L5.0-W4.0-P1.27-LS6.0-BL
pins: 1 TXD, 2 GND, 3 VCC, 4 RXD, 5 SPLIT, 6 CANL, 7 CANH, 8 STB

## TP4056
designator U?, comment TP4056_C725790
BOM_Manufacturer: UMW(Youtai Semiconductor Co., Ltd.); BOM_Manufacturer Part: TP4056; Contributor: LCSC; BOM_Supplier: LCSC; BOM_Supplier Part: C725790; BOM_JLCPCB Part Class: Extended Part; spicePre: U; spiceSymbolName: TP4056_C725790
footprint ESOP-8_TP4056
pins: 1 TEMP, 2 PROG, 3 GND, 4 VCC, 5 BAT, 6 STDBY, 7 CHRG, 8 CE, 9 EP

## TS-1092S-B1D2-W
designator SW?
触控开关; BOM_Manufacturer: Yuandi(台湾元迪); Contributor: LCSC; BOM_Supplier: LCSC; BOM_Supplier Part: C782859; BOM_Manufacturer Part: TS-1092S-B1D2-W; BOM_JLCPCB Part Class: Extended Part; spicePre: S; spiceSymbolName: TS-1092S-B1D2-W
footprint SW-SMD_L6.1-W3.6-LS7.9
pins: 1, 2

## TYPE-C16PIN
designator USB?
Manufacturer: SHOU HAN(首韩); Symbol: TYPE-C16PIN; Add into BOM: yes; Connector Type: Type-C; Gender: 母座; Number of Contacts: 16; Number of Ports: 1; Current Rating - Power (Max): 3A; Device: TYPE-C16PIN; LCSC Part Name: Type-C 母座 卧贴 快充闪充 停产; Supplier Part: C393939; Manufacturer Part: TYPE-C16PIN; Supplier Footprint: SMD; JLCPCB Part Class: Extended Part; Datasheet: https://atta.szlcsc.com/upload/public/pdf/source/20190521/C393939_7B9043D4CF1026AF443AB60D91FBCD5C.pdf; Supplier: LCSC; Convert to PCB: yes; Standard: -; Mounting Style: 卧贴; Operating Temperature Range: -40~+85
footprint TYPE-C-SMD
pins: 1 SHELL, 2 SHELL, 3 SHELL, 4 SHELL, A1B12 GND, A4B9 VBUS, A5 CC1, A6 DP1, A7 DN1, A8 SBU1, B1A12 GND, B4A9 VBUS, B5 CC2, B6 DP2, B7 DN2, B8 SBU2

## XTAL
designator Y1
Crystal Oscillator; Published: 8-Jun-2000; LatestRevisionDate: 17-Jul-2002; LatestRevisionNote: Re-released for DXP Platform.; PackageReference: R38; Publisher: Altium Limited; PackageDescription: Crystal, Thru-Hole; 2 Leads; Body 3.1 x 8.2 mm (Dia.xH)
footprint XTAL_socket
simulation model XTAL (Spice Subcircuit)
pins: 1 OSC1, 2 OSC2

## 电机接插件-3P
designator P?  (value not drawn)
AMASS MR30
footprint AMASS-MR30-F
footprint AMASS-MR30-M
pins: 1, 2, 3

## 跳线
designator J?  (value not drawn)
Resistor; Published: 8-Jun-2000; LatestRevisionDate: 17-Jul-2002; LatestRevisionNote: Re-released for DXP Platform.; PackageReference: AXIAL-0.4; Publisher: Altium Limited; PackageDescription: Axial Device, Thru-Hole; 2 Leads; 0.4 in Pin Spacing
footprint RES_0402
pins: 1, 2